# Altium schematic symbol library 24LC256T-I_MS.Schlib: 1 symbol
Pins are listed as number, name and electrical type; pins without a type are passive.

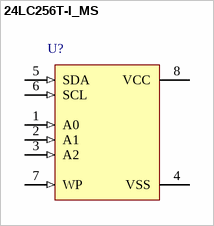
[diagram p0: symbol 24LC256T-I_MS]

## 24LC256T-I_MS
designator U?
pins: 1 A0 (in), 2 A1 (in), 3 A2 (in), 4 VSS (power), 5 SDA (in), 6 SCL (in), 7 WP (in), 8 VCC (power)